# EAGLE library part TC4427 (library Skoba)
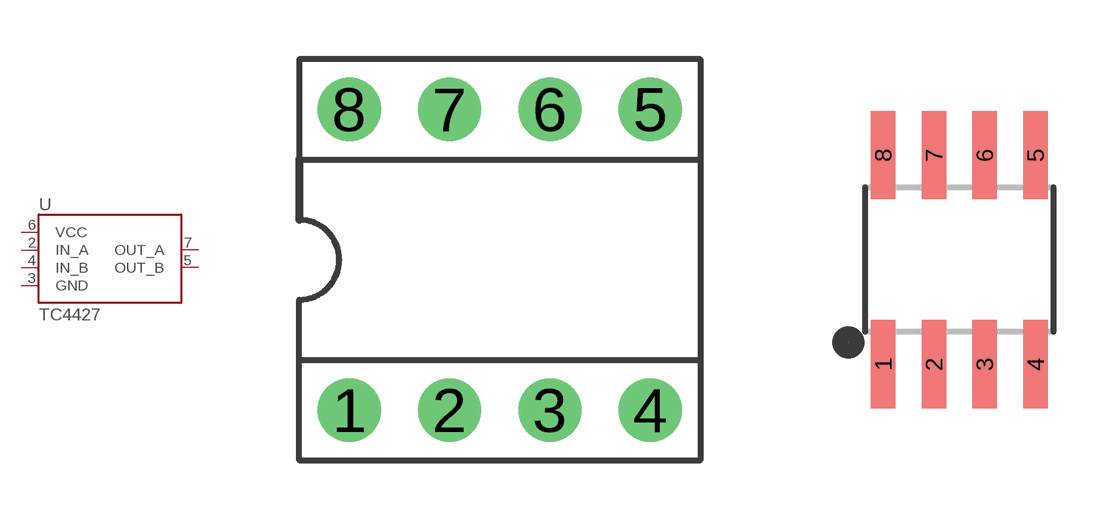
[diagram p2: symbol with the pads of DIL08; footprints DIL08, SO08]

Designator prefix U

## TC4427 (DIGIKEY: TC4427EPA-ND)  [DIL08]
2  IN_A
3  GND
4  IN_B
5  OUT_B
6  VCC
7  OUT_A

## TC4427SO08  [SO08]
Pads as for DIL08

## Footprint DIL08 (pad centres in mm)
Dual In Line
drill 0.8 pad 1.6: 1 -3.81,-3.81; 2 -1.27,-3.81; 3 1.27,-3.81; 4 3.81,-3.81; 5 3.81,3.81; 6 1.27,3.81; 7 -1.27,3.81; 8 -3.81,3.81

## Footprint SO08 (pad centres in mm)
Small Outline Package Fits JEDEC packages (narrow SOIC-8)
smd 0.61 x 2.21: 1 -1.905,-2.616; 2 -0.635,-2.616; 3 0.635,-2.616; 4 1.905,-2.616; 5 1.905,2.616; 6 0.635,2.616; 7 -0.635,2.616; 8 -1.905,2.616